# Altium integrated library BC8XX.IntLib: 2 symbols
Pins are listed as number, name and electrical type; pins without a type are passive.

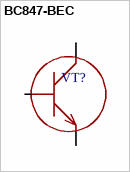
[diagram p0: symbol BC847-BEC]

## BC847-BEC
designator VT?
footprint SOT23-3
pins: 1 B, 2 E, 3 C


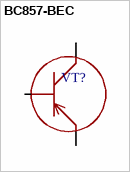
[diagram p1: symbol BC857-BEC]

## BC857-BEC
designator VT?
footprint SOT23-3
pins: 1 B, 2 E, 3 C